# Altium footprint library DPAK-STD.PcbLib: 1 footprints
Each footprint in its own frame and in the unit in brackets; x right, y up, seen from the top. Pads: shape width x height; smd on the part's side, far side on the other; paste and mask are expansions set on the pad; w line width, h text height; cw(c..) or ccw(c..) is an arc to the next point about the centre after c.
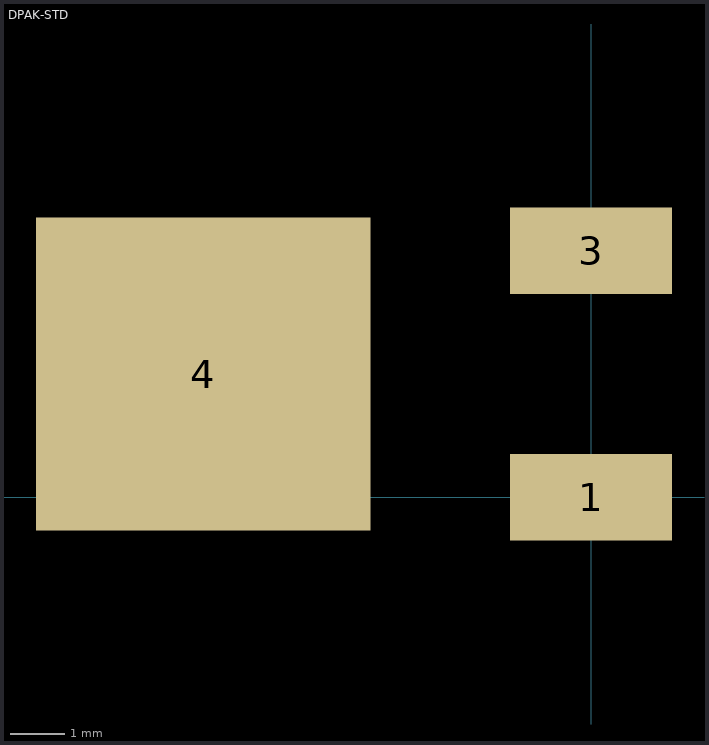
[diagram p0: the footprint, top view; thin cyan lines are the x and y axes]

## DPAK-STD [mm]
pads (3):
  rect 3x1.6 smd: 1(0,0) 3(0,4.57)
  rect 6.2x5.8 smd: 4(-7.18,2.285)
3D body: height 2.37, standoff -0.03, extent -9.387,-1.106 0.713,5.628